# EAGLE library part EPF10K100-FBGA256 (library altera)
EPF10K100 FLEX 10K family
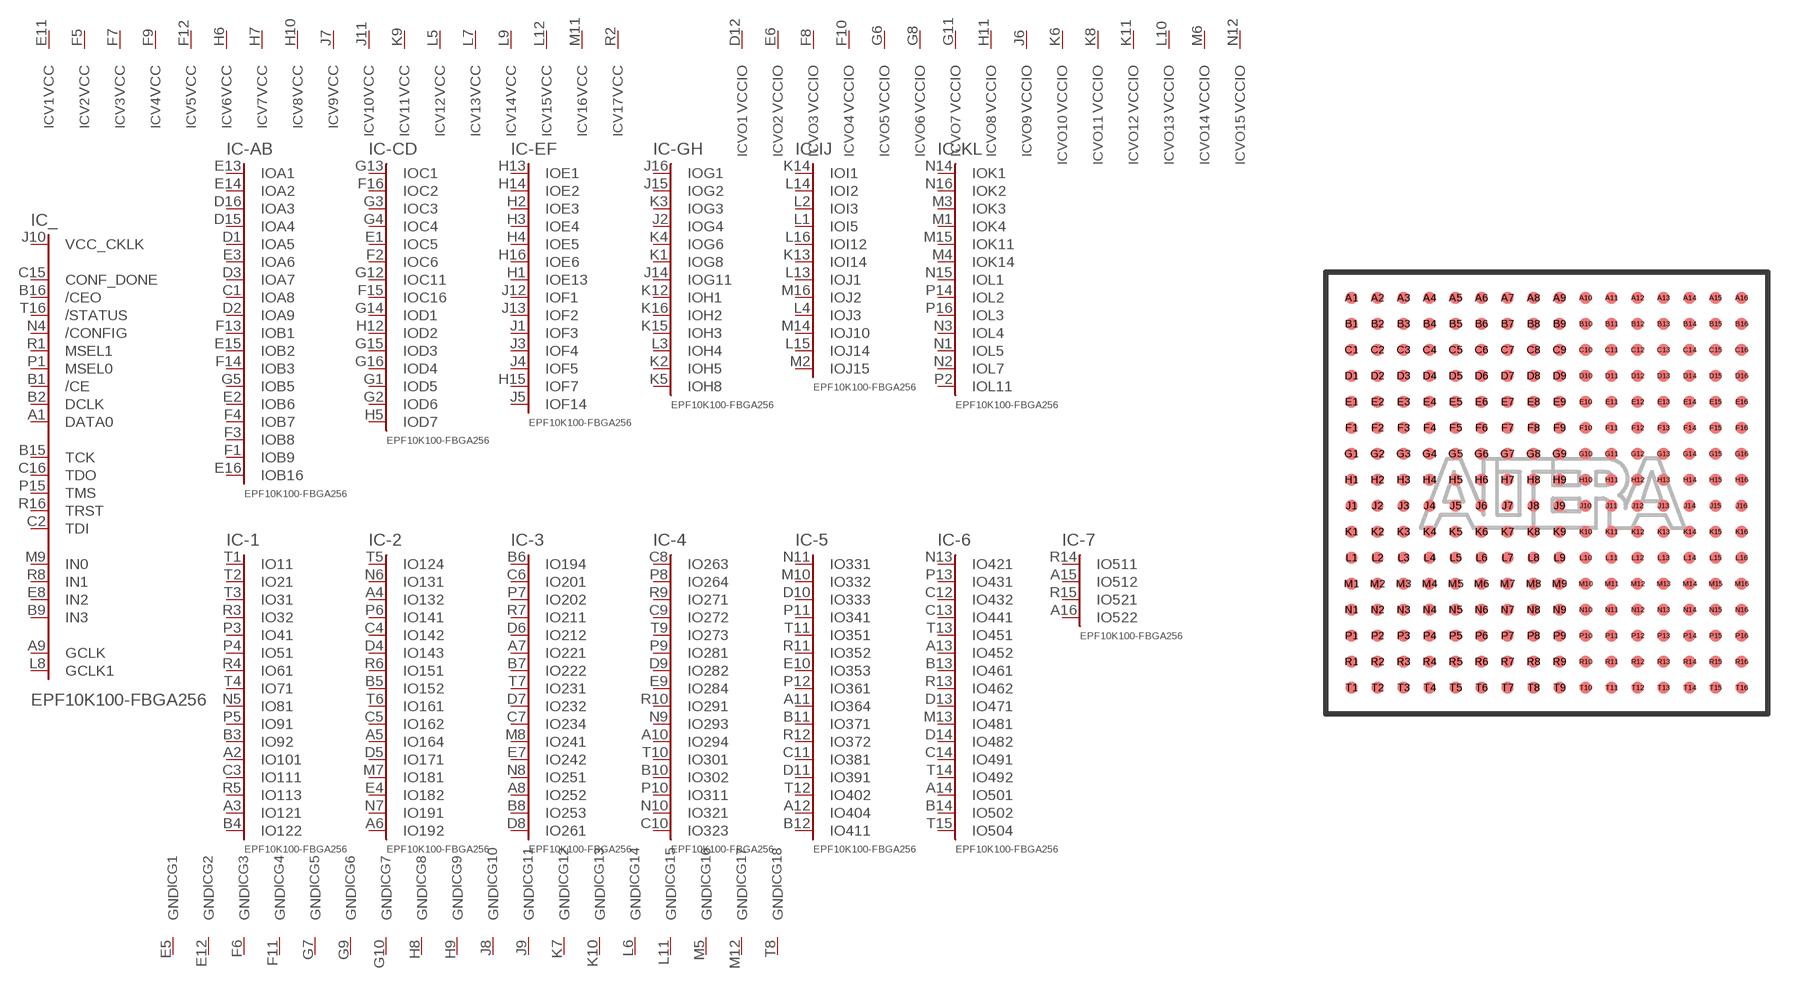
[diagram p29: symbol with the pads of FBGA256; footprint FBGA256]

Designator prefix IC; gates _=100F256C -1=122-256 -2=192-256 -3=261-256 -4=323-256 -5=411-256 -6=504-256 -7=522-256 -AB=AB-256 -CD=CD-256 -EF=EF-256 -GH=GH-256 -IJ=IJ-256 -KL=KL-256 G1=GND G2=GND G3=GND G4=GND G5=GND G6=GND G7=GND G8=GND G9=GND G10=GND G11=GND G12=GND G13=GND G14=GND G15=GND G16=GND G17=GND G18=GND V1=VCCINT V2=VCCINT V3=VCCINT V4=VCCINT V5=VCCINT V6=VCCINT V7=VCCINT V8=VCCINT V9=VCCINT V10=VCCINT V11=VCCINT V12=VCCINT V13=VCCINT V14=VCCINT V15=VCCINT V16=VCCINT V17=VCCINT VO1=VCCIO VO2=VCCIO VO3=VCCIO VO4=VCCIO VO5=VCCIO VO6=VCCIO VO7=VCCIO VO8=VCCIO VO9=VCCIO VO10=VCCIO VO11=VCCIO VO12=VCCIO VO13=VCCIO VO14=VCCIO VO15=VCCIO

## EPF10K100-FBGA256  [FBGA256]
A1  _:DATA0  in
A2  -1:IO101
A3  -1:IO121
A4  -2:IO132
A5  -2:IO164
A6  -2:IO192
A7  -3:IO221
A8  -3:IO252
A9  _:GCLK  in
A10  -4:IO294
A11  -5:IO364
A12  -5:IO404
A13  -6:IO452
A14  -6:IO501
A15  -7:IO512
A16  -7:IO522
B1  _:/CE  in
B2  _:DCLK  in
B3  -1:IO92
B4  -1:IO122
B5  -2:IO152
B6  -3:IO194
B7  -3:IO222
B8  -3:IO253
B9  _:IN3  in
B10  -4:IO302
B11  -5:IO371
B12  -5:IO411
B13  -6:IO461
B14  -6:IO502
B15  _:TCK
B16  _:/CEO  in
C1  -AB:IOA8
C2  _:TDI
C3  -1:IO111
C4  -2:IO142
C5  -2:IO162
C6  -3:IO201
C7  -3:IO234
C8  -4:IO263
C9  -4:IO272
C10  -4:IO323
C11  -5:IO381
C12  -6:IO432
C13  -6:IO441
C14  -6:IO491
C15  _:CONF_DONE  in
C16  _:TDO
D1  -AB:IOA5
D2  -AB:IOA9
D3  -AB:IOA7
D4  -2:IO143
D5  -2:IO171
D6  -3:IO212
D7  -3:IO232
D8  -3:IO261
D9  -4:IO282
D10  -5:IO333
D11  -5:IO391
D12  VO1:VCCIO  pwr
D13  -6:IO471
D14  -6:IO482
D15  -AB:IOA4
D16  -AB:IOA3
E1  -CD:IOC5
E2  -AB:IOB6
E3  -AB:IOA6
E4  -2:IO182
E5  G1:GND  pwr
E6  VO2:VCCIO  pwr
E7  -3:IO242
E8  _:IN2  in
E9  -4:IO284
E10  -5:IO353
E11  V1:VCC  pwr
E12  G2:GND  pwr
E13  -AB:IOA1
E14  -AB:IOA2
E15  -AB:IOB2
E16  -AB:IOB16
F1  -AB:IOB9
F2  -CD:IOC6
F3  -AB:IOB8
F4  -AB:IOB7
F5  V2:VCC  pwr
F6  G3:GND  pwr
F7  V3:VCC  pwr
F8  VO3:VCCIO  pwr
F9  V4:VCC  pwr
F10  VO4:VCCIO  pwr
F11  G4:GND  pwr
F12  V5:VCC  pwr
F13  -AB:IOB1
F14  -AB:IOB3
F15  -CD:IOC16
F16  -CD:IOC2
G1  -CD:IOD5
G2  -CD:IOD6
G3  -CD:IOC3
G4  -CD:IOC4
G5  -AB:IOB5
G6  VO5:VCCIO  pwr
G7  G5:GND  pwr
G8  VO6:VCCIO  pwr
G9  G6:GND  pwr
G10  G7:GND  pwr
G11  VO7:VCCIO  pwr
G12  -CD:IOC11
G13  -CD:IOC1
G14  -CD:IOD1
G15  -CD:IOD3
G16  -CD:IOD4
H1  -EF:IOE13
H2  -EF:IOE3
H3  -EF:IOE4
H4  -EF:IOE5
H5  -CD:IOD7
H6  V6:VCC  pwr
H7  V7:VCC  pwr
H8  G8:GND  pwr
H9  G9:GND  pwr
H10  V8:VCC  pwr
H11  VO8:VCCIO  pwr
H12  -CD:IOD2
H13  -EF:IOE1
H14  -EF:IOE2
H15  -EF:IOF7
H16  -EF:IOE6
J1  -EF:IOF3
J2  -GH:IOG4
J3  -EF:IOF4
J4  -EF:IOF5
J5  -EF:IOF14
J6  VO9:VCCIO  pwr
J7  V9:VCC  pwr
J8  G10:GND  pwr
J9  G11:GND  pwr
J10  _:VCC_CKLK  pas
J11  V10:VCC  pwr
J12  -EF:IOF1
J13  -EF:IOF2
J14  -GH:IOG11
J15  -GH:IOG2
J16  -GH:IOG1
K1  -GH:IOG8
K2  -GH:IOH5
K3  -GH:IOG3
K4  -GH:IOG6
K5  -GH:IOH8
K6  VO10:VCCIO  pwr
K7  G12:GND  pwr
K8  VO11:VCCIO  pwr
K9  V11:VCC  pwr
K10  G13:GND  pwr
K11  VO12:VCCIO  pwr
K12  -GH:IOH1
K13  -IJ:IOI14
K14  -IJ:IOI1
K15  -GH:IOH3
K16  -GH:IOH2
L1  -IJ:IOI5
L2  -IJ:IOI3
L3  -GH:IOH4
L4  -IJ:IOJ3
L5  V12:VCC  pwr
L6  G14:GND  pwr
L7  V13:VCC  pwr
L8  _:GCLK1  in
L9  V14:VCC  pwr
L10  VO13:VCCIO  pwr
L11  G15:GND  pwr
L12  V15:VCC  pwr
L13  -IJ:IOJ1
L14  -IJ:IOI2
L15  -IJ:IOJ14
L16  -IJ:IOI12
M1  -KL:IOK4
M2  -IJ:IOJ15
M3  -KL:IOK3
M4  -KL:IOK14
M5  G16:GND  pwr
M6  VO14:VCCIO  pwr
M7  -2:IO181
M8  -3:IO241
M9  _:IN0  in
M10  -5:IO332
M11  V16:VCC  pwr
M12  G17:GND  pwr
M13  -6:IO481
M14  -IJ:IOJ10
M15  -KL:IOK11
M16  -IJ:IOJ2
N1  -KL:IOL5
N2  -KL:IOL7
N3  -KL:IOL4
N4  _:/CONFIG  in
N5  -1:IO81
N6  -2:IO131
N7  -2:IO191
N8  -3:IO251
N9  -4:IO293
N10  -4:IO321
N11  -5:IO331
N12  VO15:VCCIO  pwr
N13  -6:IO421
N14  -KL:IOK1
N15  -KL:IOL1
N16  -KL:IOK2
P1  _:MSEL0  in
P2  -KL:IOL11
P3  -1:IO41
P4  -1:IO51
P5  -1:IO91
P6  -2:IO141
P7  -3:IO202
P8  -4:IO264
P9  -4:IO281
P10  -4:IO311
P11  -5:IO341
P12  -5:IO361
P13  -6:IO431
P14  -KL:IOL2
P15  _:TMS
P16  -KL:IOL3
R1  _:MSEL1  in
R2  V17:VCC  pwr
R3  -1:IO32
R4  -1:IO61
R5  -1:IO113
R6  -2:IO151
R7  -3:IO211
R8  _:IN1  in
R9  -4:IO271
R10  -4:IO291
R11  -5:IO352
R12  -5:IO372
R13  -6:IO462
R14  -7:IO511
R15  -7:IO521
R16  _:TRST
T1  -1:IO11
T2  -1:IO21
T3  -1:IO31
T4  -1:IO71
T5  -2:IO124
T6  -2:IO161
T7  -3:IO231
T8  G18:GND  pwr
T9  -4:IO273
T10  -4:IO301
T11  -5:IO351
T12  -5:IO402
T13  -6:IO451
T14  -6:IO492
T15  -6:IO504
T16  _:/STATUS  in

## Footprint FBGA256 (pad centres in mm)
Fine Ball Grid Array
smd 0.45 x 0.45: A1 -7.5,7.5; A2 -6.5,7.5; A3 -5.5,7.5; A4 -4.5,7.5; A5 -3.5,7.5; A6 -2.5,7.5; A7 -1.5,7.5; A8 -0.5,7.5; A9 0.5,7.5; A10 1.5,7.5; A11 2.5,7.5; A12 3.5,7.5; A13 4.5,7.5; A14 5.5,7.5; A15 6.5,7.5; A16 7.5,7.5; B1 -7.5,6.5; B2 -6.5,6.5; B3 -5.5,6.5; B4 -4.5,6.5; B5 -3.5,6.5; B6 -2.5,6.5; B7 -1.5,6.5; B8 -0.5,6.5; B9 0.5,6.5; B10 1.5,6.5; B11 2.5,6.5; B12 3.5,6.5; B13 4.5,6.5; B14 5.5,6.5; B15 6.5,6.5; B16 7.5,6.5; C1 -7.5,5.5; C2 -6.5,5.5; C3 -5.5,5.5; C4 -4.5,5.5; C5 -3.5,5.5; C6 -2.5,5.5; C7 -1.5,5.5; C8 -0.5,5.5; C9 0.5,5.5; C10 1.5,5.5; C11 2.5,5.5; C12 3.5,5.5; C13 4.5,5.5; C14 5.5,5.5; C15 6.5,5.5; C16 7.5,5.5; D1 -7.5,4.5; D2 -6.5,4.5; D3 -5.5,4.5; D4 -4.5,4.5; D5 -3.5,4.5; D6 -2.5,4.5; D7 -1.5,4.5; D8 -0.5,4.5; D9 0.5,4.5; D10 1.5,4.5; D11 2.5,4.5; D12 3.5,4.5; D13 4.5,4.5; D14 5.5,4.5; D15 6.5,4.5; D16 7.5,4.5; E1 -7.5,3.5; E2 -6.5,3.5; E3 -5.5,3.5; E4 -4.5,3.5; E5 -3.5,3.5; E6 -2.5,3.5; E7 -1.5,3.5; E8 -0.5,3.5; E9 0.5,3.5; E10 1.5,3.5; E11 2.5,3.5; E12 3.5,3.5; E13 4.5,3.5; E14 5.5,3.5; E15 6.5,3.5; E16 7.5,3.5; F1 -7.5,2.5; F2 -6.5,2.5; F3 -5.5,2.5; F4 -4.5,2.5; F5 -3.5,2.5; F6 -2.5,2.5; F7 -1.5,2.5; F8 -0.5,2.5; F9 0.5,2.5; F10 1.5,2.5; F11 2.5,2.5; F12 3.5,2.5; F13 4.5,2.5; F14 5.5,2.5; F15 6.5,2.5; F16 7.5,2.5; G1 -7.5,1.5; G2 -6.5,1.5; G3 -5.5,1.5; G4 -4.5,1.5; G5 -3.5,1.5; G6 -2.5,1.5; G7 -1.5,1.5; G8 -0.5,1.5; G9 0.5,1.5; G10 1.5,1.5; G11 2.5,1.5; G12 3.5,1.5; G13 4.5,1.5; G14 5.5,1.5; G15 6.5,1.5; G16 7.5,1.5; H1 -7.5,0.5; H2 -6.5,0.5; H3 -5.5,0.5; H4 -4.5,0.5; H5 -3.5,0.5; H6 -2.5,0.5; H7 -1.5,0.5; H8 -0.5,0.5; H9 0.5,0.5; H10 1.5,0.5; H11 2.5,0.5; H12 3.5,0.5; H13 4.5,0.5; H14 5.5,0.5; H15 6.5,0.5; H16 7.5,0.5; J1 -7.5,-0.5; J2 -6.5,-0.5; J3 -5.5,-0.5; J4 -4.5,-0.5; J5 -3.5,-0.5; J6 -2.5,-0.5; J7 -1.5,-0.5; J8 -0.5,-0.5; J9 0.5,-0.5; J10 1.5,-0.5; J11 2.5,-0.5; J12 3.5,-0.5; J13 4.5,-0.5; J14 5.5,-0.5; J15 6.5,-0.5; J16 7.5,-0.5; K1 -7.5,-1.5; K2 -6.5,-1.5; K3 -5.5,-1.5; K4 -4.5,-1.5; K5 -3.5,-1.5; K6 -2.5,-1.5; K7 -1.5,-1.5; K8 -0.5,-1.5; K9 0.5,-1.5; K10 1.5,-1.5; K11 2.5,-1.5; K12 3.5,-1.5; K13 4.5,-1.5; K14 5.5,-1.5; K15 6.5,-1.5; K16 7.5,-1.5; L1 -7.5,-2.5; L2 -6.5,-2.5; L3 -5.5,-2.5; L4 -4.5,-2.5; L5 -3.5,-2.5; L6 -2.5,-2.5; L7 -1.5,-2.5; L8 -0.5,-2.5; L9 0.5,-2.5; L10 1.5,-2.5; L11 2.5,-2.5; L12 3.5,-2.5; L13 4.5,-2.5; L14 5.5,-2.5; L15 6.5,-2.5; L16 7.5,-2.5; M1 -7.5,-3.5; M2 -6.5,-3.5; M3 -5.5,-3.5; M4 -4.5,-3.5; M5 -3.5,-3.5; M6 -2.5,-3.5; M7 -1.5,-3.5; M8 -0.5,-3.5; M9 0.5,-3.5; M10 1.5,-3.5; M11 2.5,-3.5; M12 3.5,-3.5; M13 4.5,-3.5; M14 5.5,-3.5; M15 6.5,-3.5; M16 7.5,-3.5; N1 -7.5,-4.5; N2 -6.5,-4.5; N3 -5.5,-4.5; N4 -4.5,-4.5; N5 -3.5,-4.5; N6 -2.5,-4.5; N7 -1.5,-4.5; N8 -0.5,-4.5; N9 0.5,-4.5; N10 1.5,-4.5; N11 2.5,-4.5; N12 3.5,-4.5; N13 4.5,-4.5; N14 5.5,-4.5; N15 6.5,-4.5; N16 7.5,-4.5; P1 -7.5,-5.5; P2 -6.5,-5.5; P3 -5.5,-5.5; P4 -4.5,-5.5; P5 -3.5,-5.5; P6 -2.5,-5.5; P7 -1.5,-5.5; P8 -0.5,-5.5; P9 0.5,-5.5; P10 1.5,-5.5; P11 2.5,-5.5; P12 3.5,-5.5; P13 4.5,-5.5; P14 5.5,-5.5; P15 6.5,-5.5; P16 7.5,-5.5; R1 -7.5,-6.5; R2 -6.5,-6.5; R3 -5.5,-6.5; R4 -4.5,-6.5; R5 -3.5,-6.5; R6 -2.5,-6.5; R7 -1.5,-6.5; R8 -0.5,-6.5; R9 0.5,-6.5; R10 1.5,-6.5; R11 2.5,-6.5; R12 3.5,-6.5; R13 4.5,-6.5; R14 5.5,-6.5; R15 6.5,-6.5; R16 7.5,-6.5; T1 -7.5,-7.5; T2 -6.5,-7.5; T3 -5.5,-7.5; T4 -4.5,-7.5; T5 -3.5,-7.5; T6 -2.5,-7.5; T7 -1.5,-7.5; T8 -0.5,-7.5; T9 0.5,-7.5; T10 1.5,-7.5; T11 2.5,-7.5; T12 3.5,-7.5; T13 4.5,-7.5; T14 5.5,-7.5; T15 6.5,-7.5; T16 7.5,-7.5